# EAGLE library part MOUDLE-WIFI-ESP8266-04(14P-14.7X12.1MM) (library Seeed-OPL-Moudle)
114990085
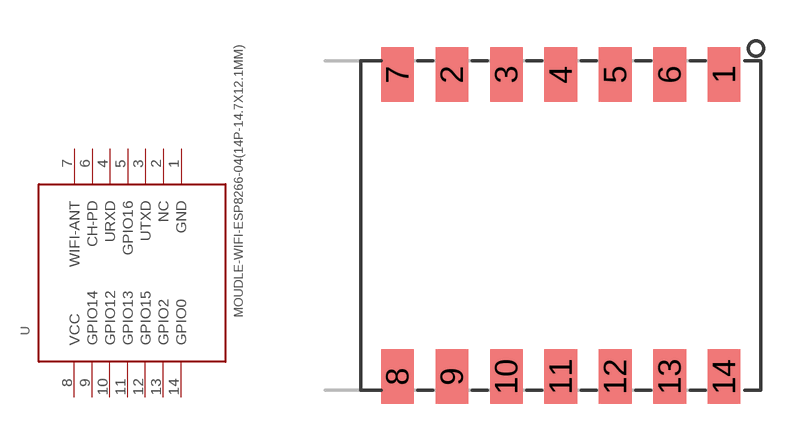
[diagram p11: symbol with the pads of LGA14-2.0-14.7X12.1MM; footprint LGA14-2.0-14.7X12.1MM]

Designator prefix U

## MOUDLE-WIFI-ESP8266-04(14P-14.7X12.1MM) (MPN: ESP8266-04; VALUE: ESP8266-04)  [LGA14-2.0-14.7X12.1MM]
1  GND
2  NC
3  UTXD
4  URXD
5  GPIO16
6  CH-PD
7  WIFI-ANT
8  VCC
9  GPIO14
10  GPIO12
11  GPIO13
12  GPIO15
13  GPIO2
14  GPIO0

## Footprint LGA14-2.0-14.7X12.1MM (pad centres in mm)
smd 1.2 x 2: 1 6,5.55; 2 -4,5.55; 3 -2,5.55; 4 0,5.55; 5 2,5.55; 6 4,5.55; 7 -6,5.55; 8 -6,-5.55; 9 -4,-5.55; 10 -2,-5.55; 11 0,-5.55; 12 2,-5.55; 13 4,-5.55; 14 6,-5.55